# EAGLE library part MPXV5100DP (library MPXV5100DP)
Board Mount Pressure Sensors SOP DUAL PORT Source: Datasheet <http://www.nxp.com/docs/en/data-sheet/MPX5100.pdf>
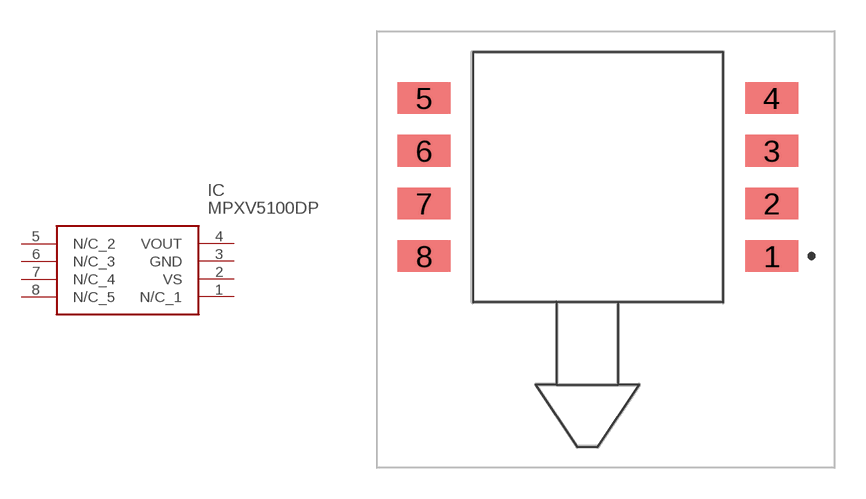
[diagram p0: symbol with the pads of MPXV5100DP; footprint MPXV5100DP]

Designator prefix IC

## MPXV5100DP (Arrow_Part_Number: MPXV5100DP; Arrow_Price-Stock: https://www.arrow.com/en/products/mpxv5100dp/nxp-semiconductors?region=nac; Description: Board Mount Pressure Sensors SOP DUAL PORT; Height: 9.906mm; Manufacturer_Name: NXP; Manufacturer_Part_Number: MPXV5100DP; Mouser_Part_Number: 841-MPXV5100DP; Mouser_Price-Stock: https://www.mouser.co.uk/ProductDetail/NXP-Semiconductors/MPXV5100DP?qs=N2XN0KY4UWWGL2ImuT%2FJ1w%3D%3D)  [MPXV5100DP]
1  N/C_1
2  VS
3  GND
4  VOUT
5  N/C_2
6  N/C_3
7  N/C_4
8  N/C_5

## Footprint MPXV5100DP (pad centres in mm)
MPXV5100DP-2
smd 2.54 x 1.52: 1 8.38,-3.81; 2 8.38,-1.27; 3 8.38,1.27; 4 8.38,3.81; 5 -8.38,3.81; 6 -8.38,1.27; 7 -8.38,-1.27; 8 -8.38,-3.81